# EAGLE library part N42G-16 (library con-malina)
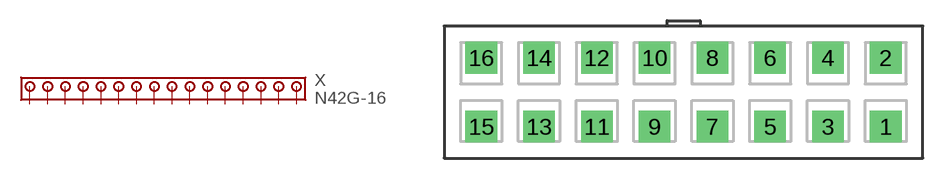
[diagram p5: symbol with the pads of N42G-16-VPS; footprint N42G-16-VPS]

Designator prefix X

## N42G-16-VPS  [N42G-16-VPS]
1  1  pas
2  2  pas
3  3  pas
4  4  pas
5  5  pas
6  6  pas
7  7  pas
8  8  pas
9  9  pas
10  10  pas
11  11  pas
12  12  pas
13  13  pas
14  14  pas
15  15  pas
16  16  pas

## Footprint N42G-16-VPS (pad centres in mm)
drill 1.5 pad 2.3 square: 1 14.7,-2.5; 2 14.7,2.5; 3 10.5,-2.5; 4 10.5,2.5; 5 6.3,-2.5; 6 6.3,2.5; 7 2.1,-2.5; 8 2.1,2.5; 9 -2.1,-2.5; 10 -2.1,2.5; 11 -6.3,-2.5; 12 -6.3,2.5; 13 -10.5,-2.5; 14 -10.5,2.5; 15 -14.7,-2.5; 16 -14.7,2.5